# EAGLE library part FH12-60S-0.5SV (library My_con-hirose)
0.5mm and 1mm Pitch Connectors For FPC/FFC Source: Data sheet <http://www.hirose.co.jp/cataloge_hp/e58605370.pdf>
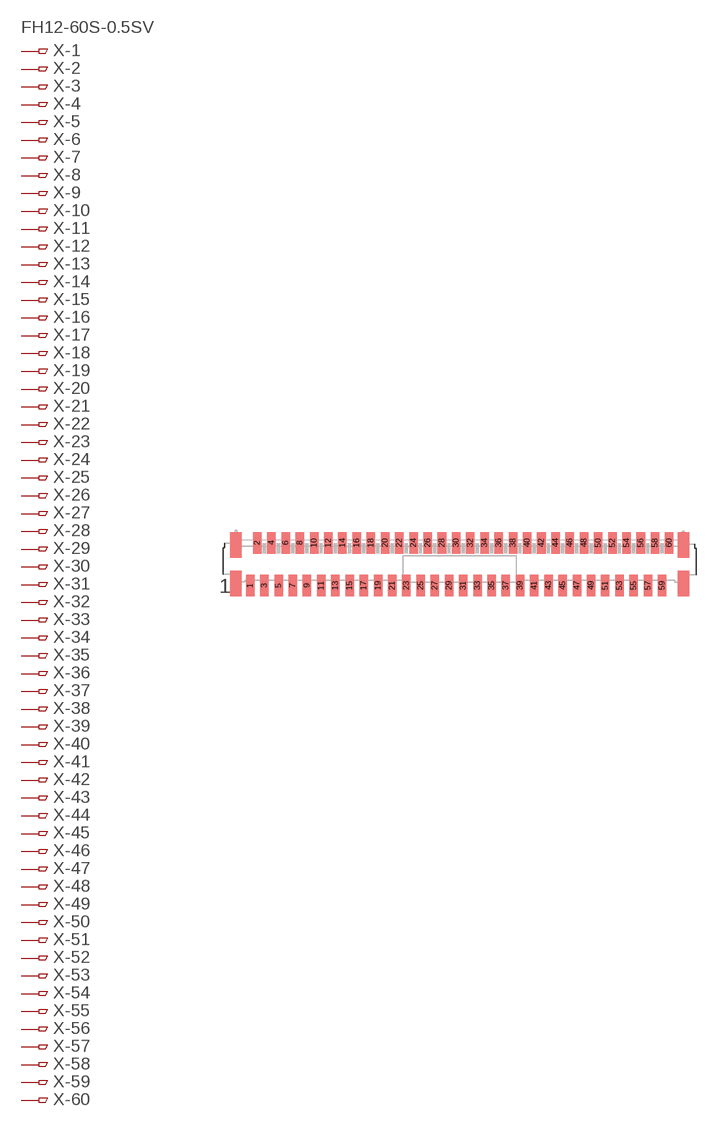
[diagram p44: symbol with the pads of FH12-60S-0.5SV; footprint FH12-60S-0.5SV]

Designator prefix X; gates -1=PINV -2=PIN -3=PIN -4=PIN -5=PIN -6=PIN -7=PIN -8=PIN -9=PIN -10=PIN -11=PIN -12=PIN -13=PIN -14=PIN -15=PIN -16=PIN -17=PIN -18=PIN -19=PIN -20=PIN -21=PIN -22=PIN -23=PIN -24=PIN -25=PIN -26=PIN -27=PIN -28=PIN -29=PIN -30=PIN -31=PIN -32=PIN -33=PIN -34=PIN -35=PIN -36=PIN -37=PIN -38=PIN -39=PIN -40=PIN -41=PIN -42=PIN -43=PIN -44=PIN -45=PIN -46=PIN -47=PIN -48=PIN -49=PIN -50=PIN -51=PIN -52=PIN -53=PIN -54=PIN -55=PIN -56=PIN -57=PIN -58=PIN -59=PIN -60=PIN

## FH12-60S-0.5SV (OC_FARNELL: unknown; OC_NEWARK: unknown)  [FH12-60S-0.5SV]
1  -1:1  pas
2  -2:1  pas
3  -3:1  pas
4  -4:1  pas
5  -5:1  pas
6  -6:1  pas
7  -7:1  pas
8  -8:1  pas
9  -9:1  pas
10  -10:1  pas
11  -11:1  pas
12  -12:1  pas
13  -13:1  pas
14  -14:1  pas
15  -15:1  pas
16  -16:1  pas
17  -17:1  pas
18  -18:1  pas
19  -19:1  pas
20  -20:1  pas
21  -21:1  pas
22  -22:1  pas
23  -23:1  pas
24  -24:1  pas
25  -25:1  pas
26  -26:1  pas
27  -27:1  pas
28  -28:1  pas
29  -29:1  pas
30  -30:1  pas
31  -31:1  pas
32  -32:1  pas
33  -33:1  pas
34  -34:1  pas
35  -35:1  pas
36  -36:1  pas
37  -37:1  pas
38  -38:1  pas
39  -39:1  pas
40  -40:1  pas
41  -41:1  pas
42  -42:1  pas
43  -43:1  pas
44  -44:1  pas
45  -45:1  pas
46  -46:1  pas
47  -47:1  pas
48  -48:1  pas
49  -49:1  pas
50  -50:1  pas
51  -51:1  pas
52  -52:1  pas
53  -53:1  pas
54  -54:1  pas
55  -55:1  pas
56  -56:1  pas
57  -57:1  pas
58  -58:1  pas
59  -59:1  pas
60  -60:1  pas

## Footprint FH12-60S-0.5SV (pad centres in mm)
0.5mm Pitch Connectors For FPC/FFC Source: Data sheet <http://www.hirose.co.jp/cataloge_hp/e58605370.pdf>
smd 0.6 x 1.5: 1 -14.75,-1.5; 2 -14.25,1.5; 3 -13.75,-1.5; 4 -13.25,1.5; 5 -12.75,-1.5; 6 -12.25,1.5; 7 -11.75,-1.5; 8 -11.25,1.5; 9 -10.75,-1.5; 10 -10.25,1.5; 11 -9.75,-1.5; 12 -9.25,1.5; 13 -8.75,-1.5; 14 -8.25,1.5; 15 -7.75,-1.5; 16 -7.25,1.5; 17 -6.75,-1.5; 18 -6.25,1.5; 19 -5.75,-1.5; 20 -5.25,1.5; 21 -4.75,-1.5; 22 -4.25,1.5; 23 -3.75,-1.5; 24 -3.25,1.5; 25 -2.75,-1.5; 26 -2.25,1.5; 27 -1.75,-1.5; 28 -1.25,1.5; 29 -0.75,-1.5; 30 -0.25,1.5; 31 0.25,-1.5; 32 0.75,1.5; 33 1.25,-1.5; 34 1.75,1.5; 35 2.25,-1.5; 36 2.75,1.5; 37 3.25,-1.5; 38 3.75,1.5; 39 4.25,-1.5; 40 4.75,1.5; 41 5.25,-1.5; 42 5.75,1.5; 43 6.25,-1.5; 44 6.75,1.5; 45 7.25,-1.5; 46 7.75,1.5; 47 8.25,-1.5; 48 8.75,1.5; 49 9.25,-1.5; 50 9.75,1.5; 51 10.25,-1.5; 52 10.75,1.5; 53 11.25,-1.5; 54 11.75,1.5; 55 12.25,-1.5; 56 12.75,1.5; 57 13.25,-1.5; 58 13.75,1.5; 59 14.25,-1.5; 60 14.75,1.5